# EAGLE library part MCP23X17 (library Eagle_CAD_parts)
IC I/O EXPANDER I2C/SPI 16B 28QFN
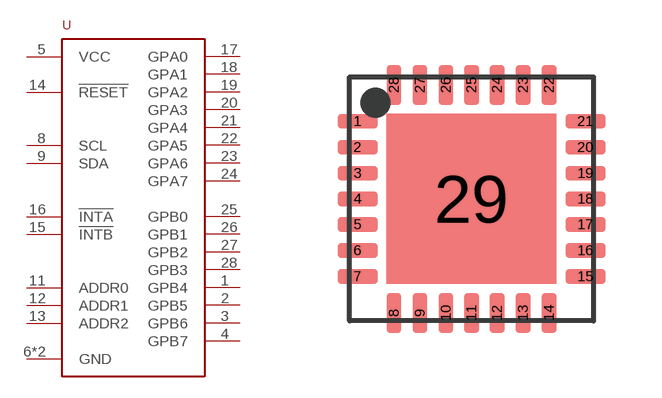
[diagram p59: symbol with the pads of 28-QFN-6X6; footprint 28-QFN-6X6]

Designator prefix U

## MCP23X17_I2C (DIGIKEY_PART_NUMBER: MCP23017-E/ML-ND; GPIO: 16; MANUFACTURER_PART_NUMBER: MCP23017-E/ML)  [28-QFN-6X6]
1  GPB4
2  GPB5
3  GPB6
4  GPB7
5  VCC  pwr
6  GND  pwr
8  SCL
9  SDA
11  ADDR0
12  ADDR1
13  ADDR2
14  !RESET
15  !INTB
16  !INTA
17  GPA0
18  GPA1
19  GPA2
20  GPA3
21  GPA4
22  GPA5
23  GPA6
24  GPA7
25  GPB0
26  GPB1
27  GPB2
28  GPB3
29  GND  pwr

## Footprint 28-QFN-6X6 (pad centres in mm)
smd 1 x 0.37: 1 -2.85,1.94; 2 -2.85,1.29; 3 -2.85,0.64; 4 -2.85,0; 5 -2.85,-0.64; 6 -2.85,-1.29; 7 -2.85,-1.94; 15 2.85,-1.94; 16 2.85,-1.29; 17 2.85,-0.64; 18 2.85,0; 19 2.85,0.64; 20 2.85,1.29; 21 2.85,1.94
smd 0.37 x 1: 8 -1.94,-2.85; 9 -1.29,-2.85; 10 -0.64,-2.85; 11 0,-2.85; 12 0.64,-2.85; 13 1.29,-2.85; 14 1.94,-2.85; 22 1.94,2.85; 23 1.29,2.85; 24 0.64,2.85; 25 0,2.85; 26 -0.64,2.85; 27 -1.29,2.85; 28 -1.94,2.85
smd 4.25 x 4.25: 29 0,0